# Altium schematic symbol library TJ16S-8P8C.SchLib: 1 symbol
Pins are listed as number, name and electrical type; pins without a type are passive.

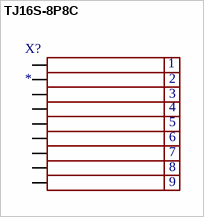
[diagram p0: symbol TJ16S-8P8C]

## TJ16S-8P8C
designator X?
KLS12-107L-2-8P8C- 0-2-1-W-1-1-1
footprint TJ16S-8P8C (ASSMANN A-2004-2-4-LP/FS)
pins: 1, 2, 3, 4, 5, 6, 7, 8, 9